# EAGLE library part PSTA-09 (library con-phoenix-350)
PSTA 1,5/XX-3,5 3.5 MM Terminal Block
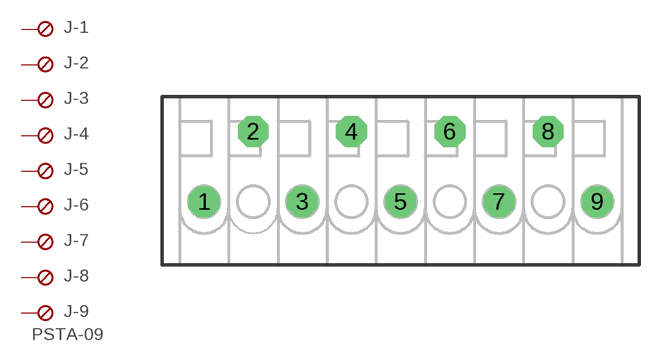
[diagram p4: symbol with the pads of PSTA-09; footprint PSTA-09]

Designator prefix J; gates -1=SKB -2=SKB -3=SKB -4=SKB -5=SKB -6=SKB -7=SKB -8=SKB -9=SKBU+V

## PSTA-09  [PSTA-09]
1  -1:S  pas
2  -2:S  pas
3  -3:S  pas
4  -4:S  pas
5  -5:S  pas
6  -6:S  pas
7  -7:S  pas
8  -8:S  pas
9  -9:S  pas

## Footprint PSTA-09 (pad centres in mm)
PTSA 1,5/9-3,5-Z 3.5mm
drill 1.016 pad 2.184 octagon: 1 -14,0; 2 -10.5,5; 3 -7,0; 4 -3.5,5; 5 0,0; 6 3.5,5; 7 7,0; 8 10.5,5; 9 14,0